# EAGLE library part BGA725L6E6327FTSA1 (library RF Amplifier)
IC AMP GPS 1.55-1.615GHZ TSLP6-2 Manufacturer's datasheet <https://www.infineon.com/dgdl/BGA725L6_V2+0.pdf?folderId=db3a30431f848401011fcbf2ab4c04c4&fileId=db3a30433784a0400137ef9a4d341f23>
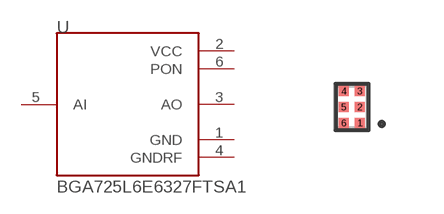
[diagram p6: symbol with the pads of BGA725L6E6327FTSA1; footprint BGA725L6E6327FTSA1]

Designator prefix U

## BGA725L6E6327FTSA1 (CREATED_BY: PCBLayout.com; DIGIKEY_PARTNO: BGA725L6E6327FTSA1TR-ND; MANUFACTURER: Infineon Technologies; MPN: BGA725L6E6327FTSA1; PACKAGE: TSLP-6)  [BGA725L6E6327FTSA1]
1  GND  pwr
2  VCC  pwr
3  AO  out
4  GNDRF  pwr
5  AI  in
6  PON  pwr

## Footprint BGA725L6E6327FTSA1 (pad centres in mm)
smd 0.25 x 0.25: 1 0.2,-0.4; 2 0.2,0; 3 0.2,0.4; 4 -0.2,0.4; 5 -0.2,0; 6 -0.2,-0.4